# EAGLE library part AT91SAM7SE (library jt-atmel-arm)
Atmel AT91 ARM7
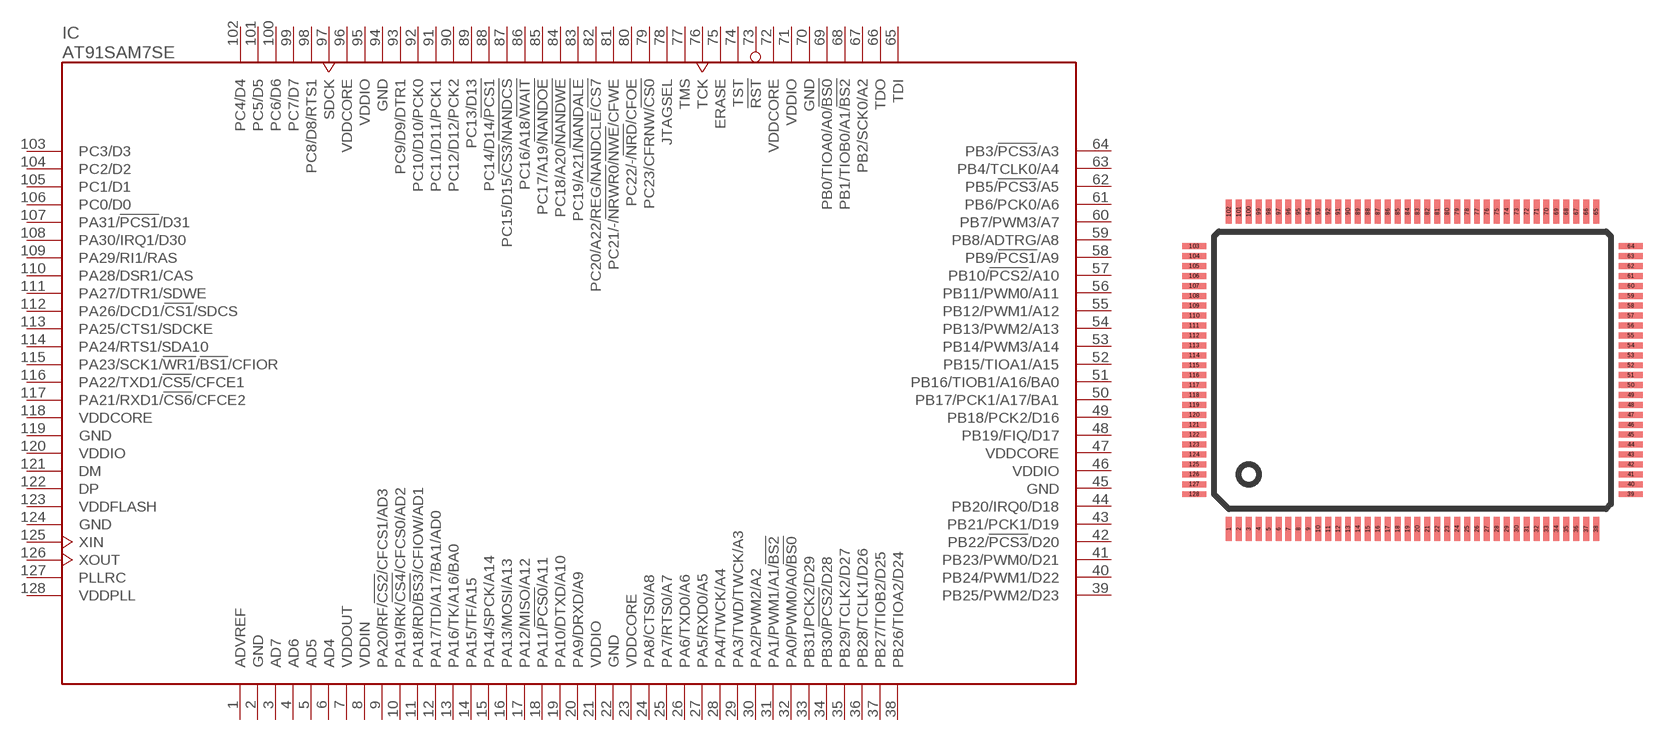
[diagram p1: symbol with the pads of LQFP128-20X14; footprint LQFP128-20X14]

Designator prefix IC

## AT91SAM7SE32 (FLASH: 32K; RAM: 8K), AT91SAM7SE256 (FLASH: 256K; RAM: 32K), AT91SAM7SE512 (FLASH: 512K; RAM: 32K)  [LQFP128-20X14]
1  ADVREF  pwr
2  GND  pwr
3  AD7  in
4  AD6  in
5  AD5  in
6  AD4  in
7  VDDOUT  pwr
8  VDDIN  pwr
9  PA20/RF/!CS2!/CFCS1/AD3
10  PA19/RK/!CS4!/CFCS0/AD2
11  PA18/RD/!BS3!/CFIOW/AD1
12  PA17/TD/A17/BA1/AD0
13  PA16/TK/A16/BA0
14  PA15/TF/A15
15  PA14/SPCK/A14
16  PA13/MOSI/A13
17  PA12/MISO/A12
18  PA11/!PCS0!/A11
19  PA10/DTXD/A10
20  PA9/DRXD/A9
21  VDDIO  pwr
22  GND  pwr
23  VDDCORE  pwr
24  PA8/CTS0/A8
25  PA7/RTS0/A7
26  PA6/TXD0/A6
27  PA5/RXD0/A5
28  PA4/TWCK/A4
29  PA3/TWD/TWCK/A3
30  PA2/PWM2/A2
31  PA1/PWM1/A1/!BS2
32  PA0/PWM0/A0/!BS0
33  PB31/PCK2/D29
34  PB30/!PCS2!/D28
35  PB29/TCLK2/D27
36  PB28/TCLK1/D26
37  PB27/TIOB2/D25
38  PB26/TIOA2/D24
39  PB25/PWM2/D23
40  PB24/PWM1/D22
41  PB23/PWM0/D21
42  PB22/!PCS3!/D20
43  PB21/PCK1/D19
44  PB20/IRQ0/D18
45  GND  pwr
46  VDDIO  pwr
47  VDDCORE  pwr
48  PB19/FIQ/D17
49  PB18/PCK2/D16
50  PB17/PCK1/A17/BA1
51  PB16/TIOB1/A16/BA0
52  PB15/TIOA1/A15
53  PB14/PWM3/A14
54  PB13/PWM2/A13
55  PB12/PWM1/A12
56  PB11/PWM0/A11
57  PB10/!PCS2!/A10
58  PB9/!PCS1!/A9
59  PB8/ADTRG/A8
60  PB7/PWM3/A7
61  PB6/PCK0/A6
62  PB5/!PCS3!/A5
63  PB4/TCLK0/A4
64  PB3/!PCS3!/A3
65  TDI  out
66  TDO
67  PB2/SCK0/A2
68  PB1/TIOB0/A1/!BS2
69  PB0/TIOA0/A0/!BS0
70  GND  pwr
71  VDDIO  pwr
72  VDDCORE  pwr
73  !RST  in
74  TST  in
75  ERASE  in
76  TCK  in
77  TMS  in
78  JTAGSEL  in
79  PC23/CFRNW/!CS0
80  PC22/-/!NRD!/CFOE
81  PC21/-/!NRWR0!/!NWE!/CFWE
82  PC20/A22/REG/!NANDCLE!/!CS7
83  PC19/A21/!NANDALE
84  PC18/A20/!NANDWE
85  PC17/A19/!NANDOE
86  PC16/A18/!WAIT
87  PC15/D15/!CS3!/!NANDCS
88  PC14/D14/!PCS1
89  PC13/D13
90  PC12/D12/PCK2
91  PC11/D11/PCK1
92  PC10/D10/PCK0
93  PC9/D9/DTR1
94  GND  pwr
95  VDDIO  pwr
96  VDDCORE  pwr
97  SDCK  out
98  PC8/D8/RTS1
99  PC7/D7
100  PC6/D6
101  PC5/D5
102  PC4/D4
103  PC3/D3
104  PC2/D2
105  PC1/D1
106  PC0/D0
107  PA31/!PCS1!/D31
108  PA30/IRQ1/D30
109  PA29/RI1/RAS
110  PA28/DSR1/CAS
111  PA27/DTR1/SDWE
112  PA26/DCD1/!CS1!/SDCS
113  PA25/CTS1/SDCKE
114  PA24/RTS1/SDA10
115  PA23/SCK1/!WR1!/!BS1!/CFIOR
116  PA22/TXD1/!CS5!/CFCE1
117  PA21/RXD1/!CS6!/CFCE2
118  VDDCORE  pwr
119  GND  pwr
120  VDDIO  pwr
121  DM
122  DP
123  VDDFLASH  pwr
124  GND  pwr
125  XIN
126  XOUT
127  PLLRC
128  VDDPLL  pwr

## Footprint LQFP128-20X14 (pad centres in mm)
LQFP-128 20x14 package
smd 0.3 x 1.2: 1 -9.25,-8; 2 -8.75,-8; 3 -8.25,-8; 4 -7.75,-8; 5 -7.25,-8; 6 -6.75,-8; 7 -6.25,-8; 8 -5.75,-8; 9 -5.25,-8; 10 -4.75,-8; 11 -4.25,-8; 12 -3.75,-8; 13 -3.25,-8; 14 -2.75,-8; 15 -2.25,-8; 16 -1.75,-8; 17 -1.25,-8; 18 -0.75,-8; 19 -0.25,-8; 20 0.25,-8; 21 0.75,-8; 22 1.25,-8; 23 1.75,-8; 24 2.25,-8; 25 2.75,-8; 26 3.25,-8; 27 3.75,-8; 28 4.25,-8; 29 4.75,-8; 30 5.25,-8; 31 5.75,-8; 32 6.25,-8; 33 6.75,-8; 34 7.25,-8; 35 7.75,-8; 36 8.25,-8; 37 8.75,-8; 38 9.25,-8; 65 9.25,8; 66 8.75,8; 67 8.25,8; 68 7.75,8; 69 7.25,8; 70 6.75,8; 71 6.25,8; 72 5.75,8; 73 5.25,8; 74 4.75,8; 75 4.25,8; 76 3.75,8; 77 3.25,8; 78 2.75,8; 79 2.25,8; 80 1.75,8; 81 1.25,8; 82 0.75,8; 83 0.25,8; 84 -0.25,8; 85 -0.75,8; 86 -1.25,8; 87 -1.75,8; 88 -2.25,8; 89 -2.75,8; 90 -3.25,8; 91 -3.75,8; 92 -4.25,8; 93 -4.75,8; 94 -5.25,8; 95 -5.75,8; 96 -6.25,8; 97 -6.75,8; 98 -7.25,8; 99 -7.75,8; 100 -8.25,8; 101 -8.75,8; 102 -9.25,8
smd 1.2 x 0.3: 39 11,-6.25; 40 11,-5.75; 41 11,-5.25; 42 11,-4.75; 43 11,-4.25; 44 11,-3.75; 45 11,-3.25; 46 11,-2.75; 47 11,-2.25; 48 11,-1.75; 49 11,-1.25; 50 11,-0.75; 51 11,-0.25; 52 11,0.25; 53 11,0.75; 54 11,1.25; 55 11,1.75; 56 11,2.25; 57 11,2.75; 58 11,3.25; 59 11,3.75; 60 11,4.25; 61 11,4.75; 62 11,5.25; 63 11,5.75; 64 11,6.25; 103 -11,6.25; 104 -11,5.75; 105 -11,5.25; 106 -11,4.75; 107 -11,4.25; 108 -11,3.75; 109 -11,3.25; 110 -11,2.75; 111 -11,2.25; 112 -11,1.75; 113 -11,1.25; 114 -11,0.75; 115 -11,0.25; 116 -11,-0.25; 117 -11,-0.75; 118 -11,-1.25; 119 -11,-1.75; 120 -11,-2.25; 121 -11,-2.75; 122 -11,-3.25; 123 -11,-3.75; 124 -11,-4.25; 125 -11,-4.75; 126 -11,-5.25; 127 -11,-5.75; 128 -11,-6.25